# Altium footprint library Fuse.PcbLib: 1 footprints
Each footprint in its own frame and in the unit in brackets; x right, y up, seen from the top. Pads: shape width x height; smd on the part's side, far side on the other; paste and mask are expansions set on the pad; w line width, h text height; cw(c..) or ccw(c..) is an arc to the next point about the centre after c.
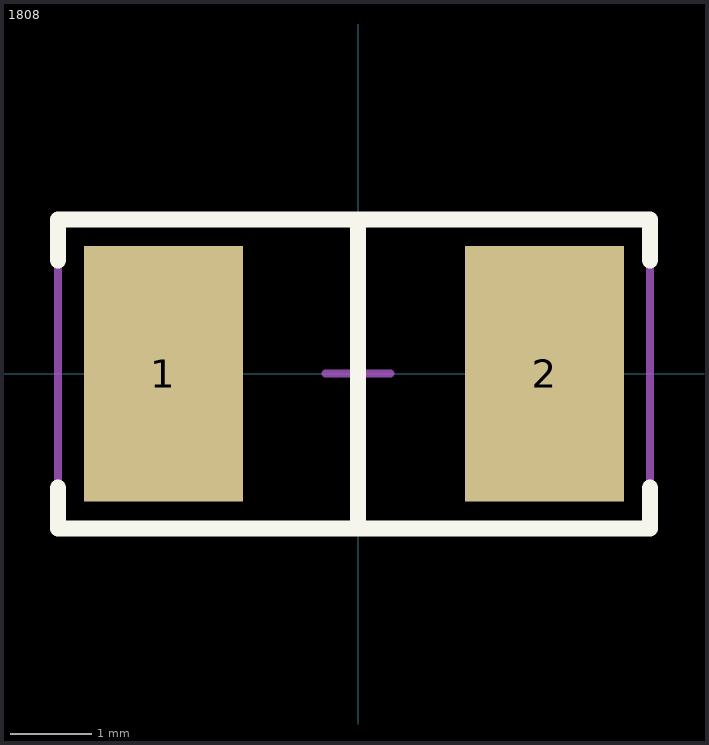
[diagram p0: the footprint, top view; thin cyan lines are the x and y axes]

## 1808 [mm] "Littelfuse Fuse  6.1mm x 2.69mmx 2.69mm"
pads (2):
  rect 1.96x3.15 smd: 1(-2.4,0) 2(2.3,0)
Top Overlay:
  lines w0.2: -3.7,-1.408 -3.7,-1.908 3.6,-1.908 3.6,-1.408 ; -3.7,1.4 -3.7,1.9 3.6,1.9 3.6,1.4 ; 0,-1.9 0,1.9
Mechanical 15:
  lines w0.1: -0.4,0 0.4,0 ; 0,-0.3 0,0.3 ; -3.7,-1.9 3.6,-1.9 3.6,1.9 -3.7,1.9 -3.7,-1.9
3D body "User Library-fuse smd.STEP": height 2.88, standoff 0.19, extent -3.088,-1.376 3.012,1.314